# Altium footprint library pwer_lib.PcbLib: 21 footprints (part 1 of 2)
Each footprint in its own frame and in the unit in brackets; x right, y up, seen from the top. Pads: shape width x height; smd on the part's side, far side on the other; paste and mask are expansions set on the pad; w line width, h text height; cw(c..) or ccw(c..) is an arc to the next point about the centre after c.
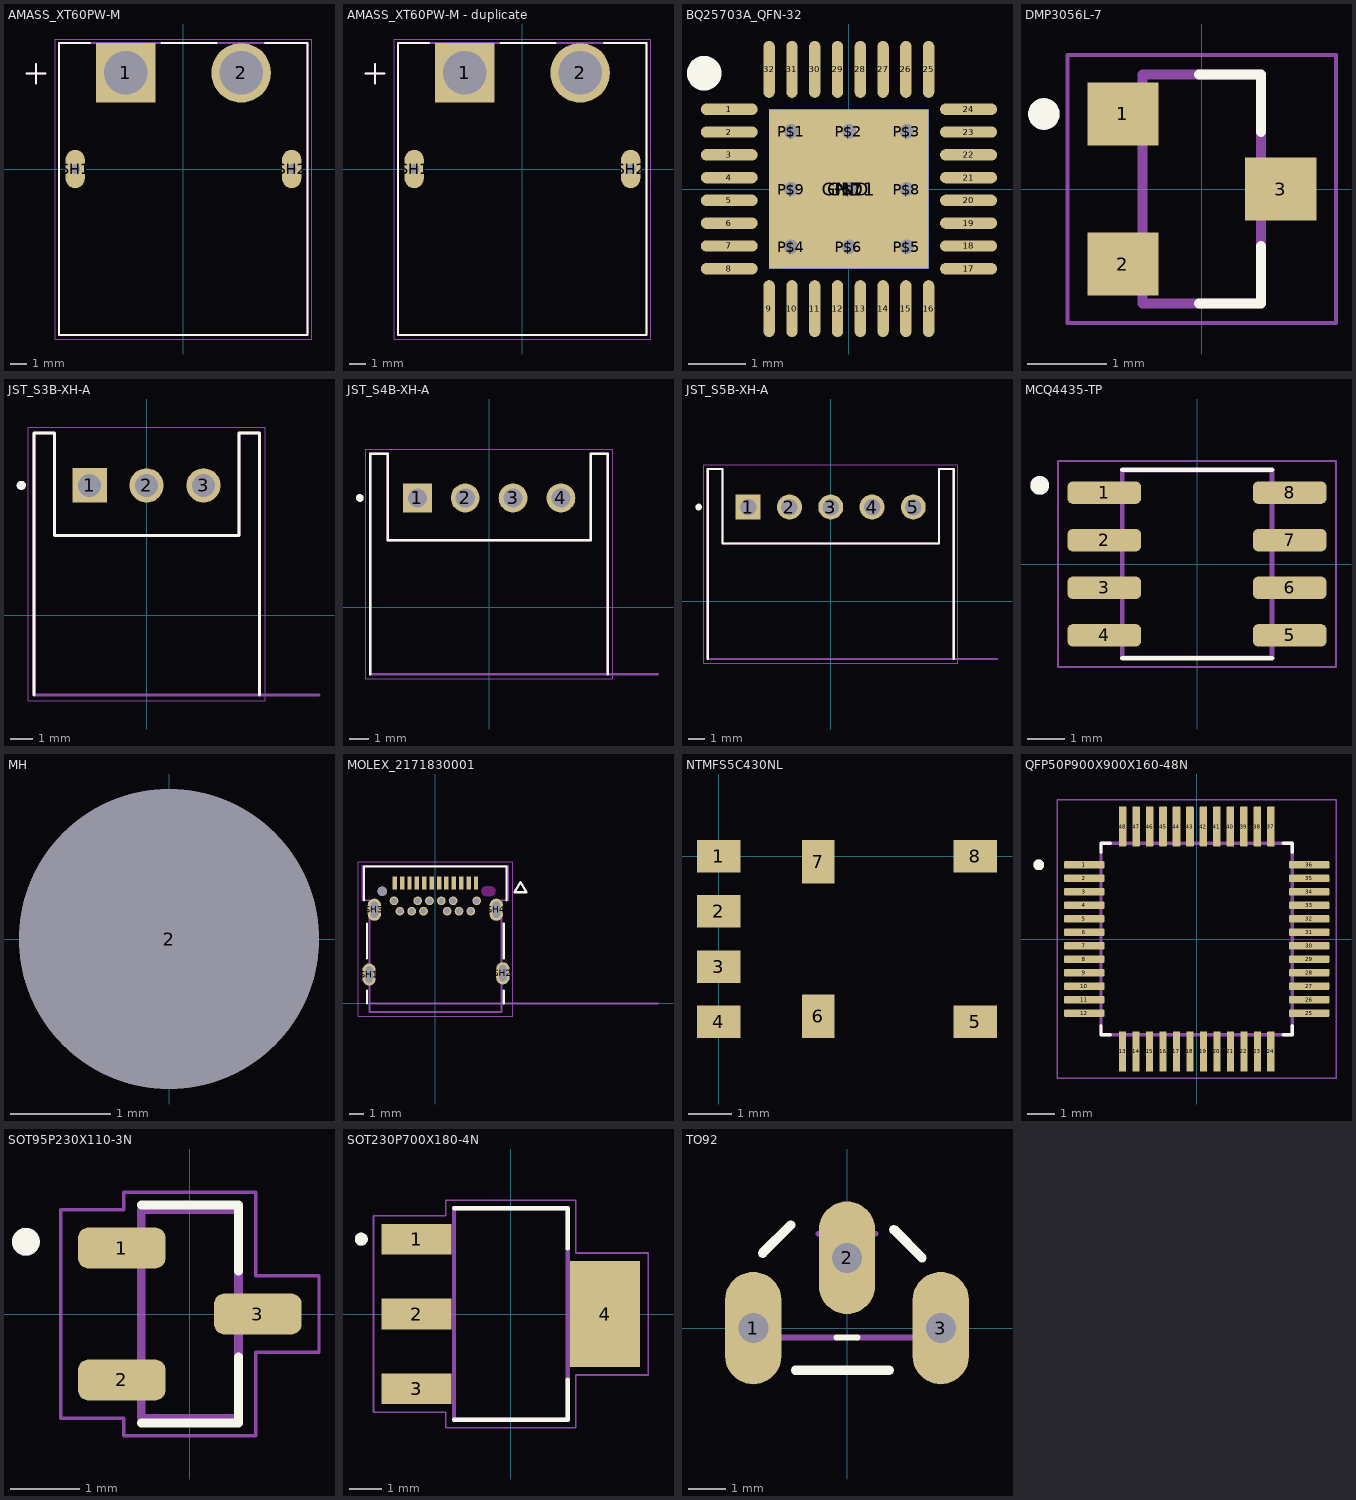
[diagram p0: the footprints below, top view; thin cyan lines are the x and y axes]

## AMASS_XT60PW-M [mm]
height 8.4
pads (4):
  rect 3.716x3.716 / inner round 3.716 / far side rect 3.716x3.716 hole 2.7 mask+0.102: 1(-3.6,6)
  round 3.716 hole 2.7 mask+0.102: 2(3.6,6)
  oval 1.2x2.4 hole 0.6 square mask+0.102: SH1(-6.75,0) SH2(6.75,0)
Top Overlay:
  lines w0.127: -9.8,5.95 -8.6,5.95 ; -9.2,5.35 -9.2,6.55 ; -5.828,7.85 -7.75,7.85 -7.75,-10.35 7.75,-10.35 7.75,7.85 5.078,7.85 ; -1.372,7.85 2.072,7.85
Mechanical 13:
  lines w0.127: -9.8,5.95 -8.6,5.95 ; -9.2,5.35 -9.2,6.55 ; -7.75,-10.35 7.75,-10.35 7.75,7.85 -7.75,7.85 -7.75,-10.35
Mechanical 15:
  lines w0.05: -8,-10.6 8,-10.6 8,8.11 -8,8.11 -8,-10.6
3D body "step_temp.STEP": height 8.4, standoff -2.55, extent -7.75,-10.35 7.75,7.85

## AMASS_XT60PW-M - duplicate [mm]
height 8.4
pads (4):
  rect 3.716x3.716 / inner round 3.716 / far side rect 3.716x3.716 hole 2.7 mask+0.102: 1(-3.6,6)
  round 3.716 hole 2.7 mask+0.102: 2(3.6,6)
  oval 1.2x2.4 hole 0.6 square mask+0.102: SH1(-6.75,0) SH2(6.75,0)
Top Overlay:
  lines w0.127: -9.8,5.95 -8.6,5.95 ; -9.2,5.35 -9.2,6.55 ; -5.828,7.85 -7.75,7.85 -7.75,-10.35 7.75,-10.35 7.75,7.85 5.078,7.85 ; -1.372,7.85 2.072,7.85
Mechanical 13:
  lines w0.127: -9.8,5.95 -8.6,5.95 ; -9.2,5.35 -9.2,6.55 ; -7.75,-10.35 -7.75,7.85 7.75,7.85 7.75,-10.35 -7.75,-10.35
Mechanical 15:
  lines w0.05: -8,-10.6 -8,8.11 8,8.11 8,-10.6 -8,-10.6
3D body "step_temp.STEP": height 8.4, standoff -2.55, extent -7.75,-10.35 7.75,7.85

## BQ25703A_QFN-32 [mm]
pads (43):
  oval 1x0.2 smd paste+0 mask+0: 1(-2.1,1.4) 2(-2.1,1) 3(-2.1,0.6) 4(-2.1,0.2) 5(-2.1,-0.2) 6(-2.1,-0.6) 7(-2.1,-1) 8(-2.1,-1.4) 17(2.1,-1.4) 18(2.1,-1) 19(2.1,-0.6) 20(2.1,-0.2) 21(2.1,0.2) 22(2.1,0.6) 23(2.1,1) 24(2.1,1.4)
  oval 0.2x1 smd paste+0 mask+0: 9(-1.4,-2.1) 10(-1,-2.1) 11(-0.6,-2.1) 12(-0.2,-2.1) 13(0.2,-2.1) 14(0.6,-2.1) 15(1,-2.1) 16(1.4,-2.1) 25(1.4,2.1) 26(1,2.1) 27(0.6,2.1) 28(0.2,2.1) 29(-0.2,2.1) 30(-0.6,2.1) 31(-1,2.1) 32(-1.4,2.1)
  rect 2.8x2.8 smd paste-2 mask+0.05: GND(0,0)
  rect 2.8x2.8 smd far side paste-2 mask+0: GND1(0,0)
  round 0.61 hole 0.25 mask+0: P$1(-1.016,1.016) P$2(0,1.016) P$3(1.016,1.016) P$4(-1.016,-1.016) P$5(1.016,-1.016) P$6(0,-1.016) P$7(0,0) P$8(1.016,0) P$9(-1.016,0)
Top Overlay:
  circle w0.406: c-2.54,2.032 r0.1
Bottom Overlay:
  circle w0.254: c-2.54,2.032 r0.127
Top Paste:
  region: 1.35,0.15 0.15,0.15 0.15,1.35 1.35,1.35
  region: 1.35,-1.35 0.15,-1.35 0.15,-0.15 1.35,-0.15
  region: -0.15,-1.35 -1.35,-1.35 -1.35,-0.15 -0.15,-0.15
  region: -0.15,0.15 -1.35,0.15 -1.35,1.35 -0.15,1.35
Top Solder:
  region: -1.675,1.25 -2.525,1.25 -2.525,1.55 -1.675,1.55
  region: -1.675,0.85 -2.525,0.85 -2.525,1.15 -1.675,1.15
  region: -1.675,0.45 -2.525,0.45 -2.525,0.75 -1.675,0.75
  region: -1.675,0.05 -2.525,0.05 -2.525,0.35 -1.675,0.35
  region: -1.675,-0.35 -2.525,-0.35 -2.525,-0.05 -1.675,-0.05
  region: -1.675,-0.75 -2.525,-0.75 -2.525,-0.45 -1.675,-0.45
  region: -1.675,-1.15 -2.525,-1.15 -2.525,-0.85 -1.675,-0.85
  region: -1.675,-1.55 -2.525,-1.55 -2.525,-1.25 -1.675,-1.25
  region: 2.525,1.25 1.675,1.25 1.675,1.55 2.525,1.55
  region: 2.525,0.85 1.675,0.85 1.675,1.15 2.525,1.15
  region: 2.525,0.45 1.675,0.45 1.675,0.75 2.525,0.75
  region: 2.525,0.05 1.675,0.05 1.675,0.35 2.525,0.35
  region: 2.525,-0.35 1.675,-0.35 1.675,-0.05 2.525,-0.05
  region: 2.525,-0.75 1.675,-0.75 1.675,-0.45 2.525,-0.45
  region: 2.525,-1.15 1.675,-1.15 1.675,-0.85 2.525,-0.85
  region: 2.525,-1.55 1.675,-1.55 1.675,-1.25 2.525,-1.25
  region: -1.25,1.675 -1.55,1.675 -1.55,2.525 -1.25,2.525
  region: -0.85,1.675 -1.15,1.675 -1.15,2.525 -0.85,2.525
  region: -0.45,1.675 -0.75,1.675 -0.75,2.525 -0.45,2.525
  region: -0.05,1.675 -0.35,1.675 -0.35,2.525 -0.05,2.525
  region: 0.35,1.675 0.05,1.675 0.05,2.525 0.35,2.525
  region: 0.75,1.675 0.45,1.675 0.45,2.525 0.75,2.525
  region: 1.15,1.675 0.85,1.675 0.85,2.525 1.15,2.525
  region: 1.55,1.675 1.25,1.675 1.25,2.525 1.55,2.525
  region: -1.25,-2.525 -1.55,-2.525 -1.55,-1.675 -1.25,-1.675
  region: -0.85,-2.525 -1.15,-2.525 -1.15,-1.675 -0.85,-1.675
  region: -0.45,-2.525 -0.75,-2.525 -0.75,-1.675 -0.45,-1.675
  region: -0.05,-2.525 -0.35,-2.525 -0.35,-1.675 -0.05,-1.675
  region: 0.35,-2.525 0.05,-2.525 0.05,-1.675 0.35,-1.675
  region: 0.75,-2.525 0.45,-2.525 0.45,-1.675 0.75,-1.675
  region: 1.15,-2.525 0.85,-2.525 0.85,-1.675 1.15,-1.675
  region: 1.55,-2.525 1.25,-2.525 1.25,-1.675 1.55,-1.675
3D body "step_temp.STEP": height 0.8, standoff 0, extent -2,-2 2,2

## DMP3056L-7 [mm]
height 1.1
pads (3):
  rect 0.9x0.8 smd: 1(-1,0.95) 2(-1,-0.95) 3(1,0)
Top Overlay:
  circle w0.2: c-2,0.95 r0.1
  lines w0.127: -0.035,-1.45 0.75,-1.45 0.75,-0.72 ; -0.035,1.45 0.75,1.45 0.75,0.72
Mechanical 13:
  circle w0.2: c-2,0.95 r0.1
  lines w0.127: -0.75,-1.45 0.75,-1.45 0.75,1.45 -0.75,1.45 -0.75,-1.45
Mechanical 15:
  lines w0.05: -1.7,-1.7 1.7,-1.7 1.7,1.7 -1.7,1.7 -1.7,-1.7
3D body "DMP3056L-7.step": height 1.21, standoff -0.16, extent -1.197,-1.45 1.281,1.45

## JST_S3B-XH-A [mm]
pads (3):
  rect 1.508x1.508 / inner round 1.508 / far side rect 1.508x1.508 hole 1: 1(-2.5,5.7)
  round 1.508 hole 1: 2(0,5.7) 3(2.5,5.7)
Top Overlay:
  circle w0.2: c-5.5,5.7 r0.1
  lines w0.127: -4.95,-3.5 -4.95,8 -4.05,8 -4.05,3.5 4.05,3.5 4.05,8 4.95,8 4.95,-3.5
Mechanical 13:
  circle w0.2: c-5.5,5.7 r0.1
  lines w0.127: 7.57,-3.5 4.95,-3.5 ; 4.95,-3.5 -4.95,-3.5 -4.95,8 -4.05,8 -4.05,3.5 4.05,3.5 4.05,8 4.95,8 4.95,-3.5
  text "PCB Edge" at 5.417,-3.203 h0.81
Mechanical 15:
  lines w0.05: -5.2,-3.75 -5.2,8.25 5.2,8.25 5.2,-3.75 -5.2,-3.75
3D body "step_temp.STEP": height 6.1, standoff -3.4, extent -4.95,-3.5 4.95,8

## JST_S4B-XH-A [mm]
pads (4):
  rect 1.508x1.508 / inner round 1.508 / far side rect 1.508x1.508 hole 1: 1(-3.75,5.7)
  round 1.508 hole 1: 2(-1.25,5.7) 3(1.25,5.7) 4(3.75,5.7)
Top Overlay:
  circle w0.2: c-6.75,5.7 r0.1
  lines w0.127: -6.2,-3.5 -6.2,8 -5.3,8 -5.3,3.5 5.3,3.5 5.3,8 6.2,8 6.2,-3.5
Mechanical 13:
  circle w0.2: c-6.75,5.7 r0.1
  lines w0.127: 8.82,-3.5 6.2,-3.5 ; 6.2,-3.5 -6.2,-3.5 -6.2,8 -5.3,8 -5.3,3.5 5.3,3.5 5.3,8 6.2,8 6.2,-3.5
  text "PCB Edge" at 6.667,-3.203 h0.81
Mechanical 15:
  lines w0.05: -6.45,-3.75 -6.45,8.25 6.45,8.25 6.45,-3.75 -6.45,-3.75
3D body "step_temp.STEP": height 6.1, standoff -3.4, extent -6.2,-3.5 6.2,8

## JST_S5B-XH-A [mm]
height 6.1
pads (5):
  rect 1.508x1.508 / inner round 1.508 / far side rect 1.508x1.508 hole 1: 1(-5,5.7)
  round 1.508 hole 1: 2(-2.5,5.7) 3(0,5.7) 4(2.5,5.7) 5(5,5.7)
Top Overlay:
  circle w0.2: c-8,5.7 r0.1
  lines w0.127: -7.45,-3.5 -7.45,8 -6.55,8 -6.55,3.5 6.55,3.5 6.55,8 7.45,8 7.45,-3.5
Mechanical 13:
  circle w0.2: c-8,5.7 r0.1
  lines w0.127: 10.07,-3.5 7.45,-3.5 ; 7.45,-3.5 7.45,8 6.55,8 6.55,3.5 -6.55,3.5 -6.55,8 -7.45,8 -7.45,-3.5 7.45,-3.5
  text "PCB Edge" at 7.918,-3.203 h0.81
Mechanical 15:
  lines w0.05: -7.7,-3.75 7.7,-3.75 7.7,8.25 -7.7,8.25 -7.7,-3.75
3D body "step_temp.STEP": height 6.1, standoff -3.4, extent -7.45,-3.5 7.45,8

## MCQ4435-TP [mm]
pads (8):
  rrect50% 1.97x0.6 smd paste+0 mask+0.102: 1(-2.475,1.905) 2(-2.475,0.635) 3(-2.475,-0.635) 4(-2.475,-1.905) 5(2.475,-1.905) 6(2.475,-0.635) 7(2.475,0.635) 8(2.475,1.905)
Top Overlay:
  circle w0.3: c-4.2,2.1 r0.1
  lines w0.127: -2,-2.519 2,-2.519 ; -2,2.519 2,2.519
Mechanical 13:
  circle w0.3: c-4.2,2.1 r0.1
  lines w0.127: -2,-2.5 2,-2.5 2,2.5 -2,2.5 -2,-2.5
Mechanical 15:
  lines w0.05: -3.71,-2.75 3.71,-2.75 3.71,2.75 -3.71,2.75 -3.71,-2.75

## MH [mm]
pads (1):
  round 3 hole 3: 2(0,0)

## MOLEX_2171830001 [mm]
height 3.315
pads (29):
  rect 0.298x0.9 smd mask-2539.97: A1(-2.75,8.15) A2(-2.25,8.15) A3(-1.75,8.15) A4(-1.25,8.15) A5(-0.75,8.15) A6(-0.25,8.15) A7(0.25,8.15) A8(0.75,8.15) A9(1.25,8.15) A10(1.75,8.15) A11(2.25,8.15) A12(2.75,8.15)
  round 0.59 hole 0.4 mask-2539.97: B1(2.8,6.94) B2(2.4,6.24) B3(1.6,6.24) B4(1.2,6.94) B5(0.8,6.24) B6(0.4,6.94) B7(-0.4,6.94) B8(-0.8,6.24) B9(-1.2,6.94) B10(-1.6,6.24) B11(-2.4,6.24) B12(-2.8,6.94)
  oval 0.9x1.5 hole 0.5 slot 1.1 at 90 deg mask+0.064: SH1(-4.49,1.95) SH2(4.572,2.032) SH3(-4.13,6.34) SH4(4.13,6.34)
  round 0.65 hole 0.65 unplated mask+0.064: ""(-3.6,7.59)
Top Overlay:
  lines w0.15: -4.826,6.98 -4.826,9.271 4.826,9.271 4.826,6.98 ; -4.625,0 -4.625,0.85 ; -4.625,3.05 -4.625,5.4 ; 4.625,0 4.625,0.85 ; 4.625,3.05 4.625,5.4 ; 5.359,7.52 5.759,8.22 6.159,7.52 5.359,7.52
Top Solder:
  drawing of 25 lines, arcs and shapes, not listed
Bottom Solder:
  region: 3.77,7.978 3.791,7.976 3.811,7.974 3.831,7.97 3.851,7.965 3.87,7.959 3.889,7.953 3.908,7.945 3.926,7.936 3.944,7.926 3.962,7.916 3.978,7.904 3.994,7.892 4.01,7.879 4.025,7.865 4.039,7.85 4.052,7.834 4.064,7.818 4.076,7.802 4.086,7.784 4.096,7.766 4.105,7.748 4.113,7.729 4.119,7.71 4.125,7.691 4.13,7.671 4.134,7.651 4.136,7.631 4.138,7.61 4.138,7.59 4.138,7.57 4.136,7.549 4.134,7.529 4.13,7.509 4.125,7.489 4.119,7.47 4.113,7.451 4.105,7.432 4.096,7.414 4.086,7.396 4.076,7.378 4.064,7.362 4.052,7.346 4.039,7.33 4.025,7.315 4.01,7.301 3.994,7.288 3.978,7.276 3.962,7.264 3.944,7.254 3.926,7.244 3.908,7.235 3.889,7.227 3.87,7.221 3.851,7.215 3.831,7.21 3.811,7.206 3.791,7.204 3.77,7.202 3.43,7.202 3.409,7.204 3.389,7.206 3.369,7.21 3.349,7.215 3.33,7.221 3.311,7.227 3.292,7.235 3.274,7.244 3.256,7.254 3.238,7.264 3.222,7.276 3.206,7.288 3.19,7.301 3.175,7.315 3.161,7.33 3.148,7.346 3.136,7.362 3.124,7.378 3.114,7.396 3.104,7.414 3.095,7.432 3.087,7.451 3.081,7.47 3.075,7.489 3.07,7.509 3.066,7.529 3.064,7.549 3.062,7.57 3.062,7.59 3.062,7.61 3.064,7.631 3.066,7.651 3.07,7.671 3.075,7.691 3.081,7.71 3.087,7.729 3.095,7.748 3.104,7.766 3.114,7.784 3.124,7.802 3.136,7.818 3.148,7.834 3.161,7.85 3.175,7.865 3.19,7.879 3.206,7.892 3.222,7.904 3.238,7.916 3.256,7.926 3.274,7.936 3.292,7.945 3.311,7.953 3.33,7.959 3.349,7.965 3.369,7.97 3.389,7.974 3.409,7.976 3.43,7.978 3.45,7.979 3.75,7.979
  circle w0.295: c2.4,6.24 r0.147
  circle w0.295: c1.6,6.24 r0.147
  circle w0.295: c0.8,6.24 r0.147
  circle w0.295: c-2.4,6.24 r0.147
  circle w0.295: c-1.6,6.24 r0.147
  circle w0.295: c-0.8,6.24 r0.147
  circle w0.295: c2.8,6.94 r0.147
  circle w0.295: c1.2,6.94 r0.147
  circle w0.295: c0.4,6.94 r0.147
  circle w0.295: c-2.8,6.94 r0.147
  circle w0.295: c-1.2,6.94 r0.147
  circle w0.295: c-0.4,6.94 r0.147
Keep-Out Layer:
  board cut-out: 3.75,7.265 3.45,7.265 3.433,7.265 3.416,7.267 3.399,7.269 3.382,7.272 3.366,7.276 3.35,7.281 3.334,7.287 3.318,7.293 3.302,7.3 3.288,7.309 3.273,7.317 3.259,7.327 3.245,7.337 3.233,7.348 3.22,7.36 3.208,7.373 3.197,7.385 3.187,7.399 3.177,7.413 3.169,7.428 3.16,7.442 3.153,7.458 3.147,7.474 3.141,7.49 3.136,7.506 3.132,7.522 3.129,7.539 3.127,7.556 3.125,7.573 3.125,7.59 3.125,7.607 3.127,7.624 3.129,7.641 3.132,7.658 3.136,7.674 3.141,7.69 3.147,7.706 3.153,7.722 3.16,7.738 3.169,7.752 3.177,7.767 3.187,7.781 3.197,7.795 3.208,7.807 3.22,7.82 3.233,7.832 3.245,7.843 3.259,7.853 3.273,7.863 3.288,7.871 3.302,7.88 3.318,7.887 3.334,7.893 3.35,7.899 3.366,7.904 3.382,7.908 3.399,7.911 3.416,7.913 3.433,7.915 3.45,7.915 3.75,7.915 3.767,7.915 3.784,7.913 3.801,7.911 3.818,7.908 3.834,7.904 3.85,7.899 3.866,7.893 3.882,7.887 3.898,7.88 3.913,7.871 3.927,7.863 3.941,7.853 3.955,7.843 3.967,7.832 3.98,7.82 3.992,7.807 4.003,7.795 4.013,7.781 4.023,7.767 4.031,7.752 4.04,7.738 4.047,7.722 4.053,7.706 4.059,7.69 4.064,7.674 4.068,7.658 4.071,7.641 4.073,7.624 4.075,7.607 4.075,7.59 4.075,7.573 4.073,7.556 4.071,7.539 4.068,7.522 4.064,7.506 4.059,7.49 4.053,7.474 4.047,7.458 4.04,7.442 4.031,7.428 4.023,7.413 4.013,7.399 4.003,7.385 3.992,7.373 3.98,7.36 3.967,7.348 3.955,7.337 3.941,7.327 3.927,7.317 3.913,7.309 3.898,7.3 3.882,7.293 3.866,7.287 3.85,7.281 3.834,7.276 3.818,7.272 3.801,7.269 3.784,7.267 3.767,7.265
Mechanical 2:
  text "'.Designator'" at 0,4.877 h0.7
Mechanical 12:
  text "NPTH Drill 0.65 +/- 0.05" at -5.93,12.992 h0.5
  text "PTH Drill 0.4 +/- 0.05" at -5.93,14.971 h0.5
  text "NPTH Slot 0.95 +/- 0.05 X 0.65 +/- 0.05" at -5.93,14.032 h0.5
  text "PTH Slot 1.1 +/- 0.05 X 0.5 +/- 0.05" at -5.93,15.987 h0.5
Mechanical 13:
  lines w0.13: 15.08,0 -4.475,0 ; -4.475,0 -4.475,6.98 -4.925,6.98 -4.925,9.29 4.925,9.29 4.925,6.98 4.475,6.98 4.475,-0.58 -4.475,-0.58 -4.475,0 ; 5.359,7.52 5.759,8.22 6.159,7.52 5.359,7.52
  text "PCB EDGE" at 5.67,0.4 h1.27
Mechanical 15:
  lines w0.01: -5.24,-0.88 5.24,-0.88 5.24,9.59 -5.24,9.59 -5.24,-0.88
3D body "2171830001.stp": height 3.27, standoff -1.19, extent -4.953,-0.617 4.897,9.253

## NTMFS5C430NL [mm]
pads (8):
  rect 1x0.75 smd: 1(0,0) 2(0,-1.27) 3(0,-2.54) 4(0,-3.81) 5(5.9,-3.81) 8(5.9,0)
  rect 0.75x1 smd: 6(2.286,-3.683) 7(2.286,-0.127)

## PCBComponent_1 [mm]

## QFP50P900X900X160-48N [mm]
pads (48):
  rrect25% 1.49x0.27 smd mask-2539.97: 1(-4.17,2.75) 2(-4.17,2.25) 3(-4.17,1.75) 4(-4.17,1.25) 5(-4.17,0.75) 6(-4.17,0.25) 7(-4.17,-0.25) 8(-4.17,-0.75) 9(-4.17,-1.25) 10(-4.17,-1.75) 11(-4.17,-2.25) 12(-4.17,-2.75)
  rrect25% 0.27x1.49 smd mask-2539.97: 13(-2.75,-4.17) 14(-2.25,-4.17) 15(-1.75,-4.17) 16(-1.25,-4.17) 17(-0.75,-4.17) 18(-0.25,-4.17) 19(0.25,-4.17) 20(0.75,-4.17) 21(1.25,-4.17) 22(1.75,-4.17) 23(2.25,-4.17) 24(2.75,-4.17)
  rrect25% 1.49x0.28 smd mask-2539.97: 25(4.17,-2.75) 26(4.17,-2.25) 27(4.17,-1.75) 28(4.17,-1.25) 29(4.17,-0.75) 30(4.17,-0.25) 31(4.17,0.25) 32(4.17,0.75) 33(4.17,1.25) 34(4.17,1.75) 35(4.17,2.25) 36(4.17,2.75)
  rrect25% 0.28x1.49 smd mask-2539.97: 37(2.75,4.17) 38(2.25,4.17) 39(1.75,4.17) 40(1.25,4.17) 41(0.75,4.17) 42(0.25,4.17) 43(-0.25,4.17) 44(-0.75,4.17) 45(-1.25,4.17) 46(-1.75,4.17) 47(-2.25,4.17) 48(-2.75,4.17)
Top Overlay:
  circle w0.2: c-5.86,2.75 r0.1
  lines w0.127: -3.55,-3.21 -3.55,-3.55 -3.21,-3.55 ; -3.55,3.21 -3.55,3.55 -3.21,3.55 ; 3.21,-3.55 3.55,-3.55 3.55,-3.21 ; 3.21,3.55 3.55,3.55 3.55,3.21
Top Solder:
  drawing of 48 lines, arcs and shapes, not listed
Mechanical 13:
  circle w0.2: c-5.86,2.75 r0.1
  lines w0.127: -3.55,-3.55 -3.55,3.55 3.55,3.55 3.55,-3.55 -3.55,-3.55
Mechanical 15:
  lines w0.05: -5.165,-5.165 -5.165,5.165 5.165,5.165 5.165,-5.165 -5.165,-5.165
3D body "step_temp.STEP": height 1.61, standoff -0.54, extent -4.536,-4.5 4.545,4.5

## SOT95P230X110-3N [mm]
height 1.1
pads (3):
  rrect50% 1.26x0.59 smd: 1(-0.98,0.95) 2(-0.98,-0.95) 3(0.98,0)
Top Overlay:
  circle w0.2: c-2.36,1.04 r0.1
  lines w0.127: -0.7,-1.57 0.7,-1.57 0.7,-0.62 ; -0.7,1.57 0.7,1.57 0.7,0.62
Mechanical 13:
  circle w0.2: c-2.36,1.04 r0.1
  lines w0.127: -0.7,-1.5 0.7,-1.5 0.7,1.5 -0.7,1.5 -0.7,-1.5
Mechanical 15:
  lines w0.05: -1.86,-1.5 -0.95,-1.5 -0.95,-1.75 0.95,-1.75 0.95,-0.55 1.86,-0.55 1.86,0.55 0.95,0.55 0.95,1.75 -0.95,1.75 -0.95,1.5 -1.86,1.5 -1.86,-1.5
3D body "step_temp.STEP": height 1.1, standoff 0, extent -1.15,-1.45 1.15,1.45

## SOT230P700X180-4N [mm]
pads (4):
  rect 2.15x0.95 smd paste+0 mask+0.102: 1(-2.9,2.3) 2(-2.9,0) 3(-2.9,-2.3)
  rect 2.15x3.25 smd paste+0 mask+0.102: 4(2.9,0)
Top Overlay:
  circle w0.2: c-4.6,2.3 r0.1
  lines w0.127: -1.75,-3.25 1.75,-3.25 1.75,-2.01 ; -1.75,3.25 1.75,3.25 1.75,2.01
Mechanical 13:
  circle w0.2: c-4.6,2.3 r0.1
  lines w0.127: -1.75,-3.25 1.75,-3.25 1.75,3.25 -1.75,3.25 -1.75,-3.25
Mechanical 15:
  lines w0.05: -4.225,-3.025 -2,-3.025 -2,-3.5 2,-3.5 2,-1.875 4.225,-1.875 4.225,1.875 2,1.875 2,3.5 -2,3.5 -2,3.025 -4.225,3.025 -4.225,-3.025
3D body "step_temp.STEP": height 1.8, standoff 0, extent -3.499,-3.25 3.499,3.25

## TO92 [mil]
pads (3):
  oval 60x120 hole 32 mask+4.02: 1(-100,0) 2(0,75) 3(100,0)
Top Overlay:
  lines w6: -11.26,-10 11.26,-10
  lines w10: -90,80 -60,110 ; -55,-45 45,-45 ; 50,105 80,75
Mechanical 13:
  lines w6: -88.74,-10 -11.26,-10 ; -30.7,100.41 cw(c0,0) 30.7,100.41 ; 11.26,-10 88.74,-10
3D body "step_temp.STEP": height 318.37, standoff -354.86, extent -107.87,-50 107.87,91.73